# EAGLE library part FIN1047 (library pimoroni-ics)
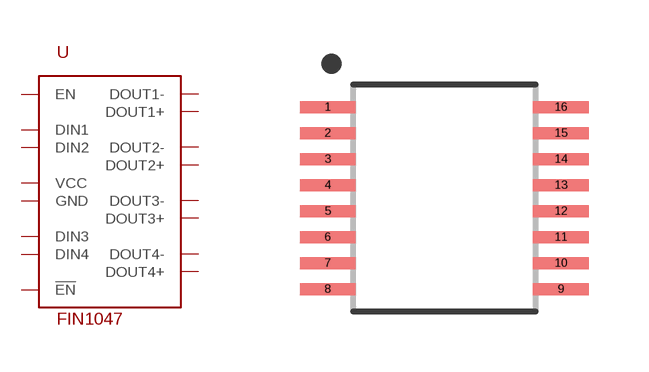
[diagram p171: symbol with the pads of TSSOP-16; footprint TSSOP-16]

Designator prefix -

## FIN1047  [TSSOP-16]
1  EN  in
2  DIN1  in
3  DIN2  in
4  VCC  pwr
5  GND  pwr
6  DIN3  in
7  DIN4  in
8  !EN  in
9  DOUT4-  out
10  DOUT4+  out
11  DOUT3-  out
12  DOUT3+  out
13  DOUT2-  out
14  DOUT2+  out
15  DOUT1-  out
16  DOUT1+  out

## Footprint TSSOP-16 (pad centres in mm)
smd 1.4 x 0.3: 1 -2.918,2.275; 2 -2.918,1.625; 3 -2.918,0.975; 4 -2.918,0.325; 5 -2.918,-0.325; 6 -2.918,-0.975; 7 -2.918,-1.625; 8 -2.918,-2.275; 9 2.918,-2.275; 10 2.918,-1.625; 11 2.918,-0.975; 12 2.918,-0.325; 13 2.918,0.325; 14 2.918,0.975; 15 2.918,1.625; 16 2.918,2.275